# EAGLE library part SULLINS_PPPC062LFBN-RC (library Sullins - PPPC062LFBN-RC)
12 Position Header Connector 0.100" (2.54mm) Through Hole Gold
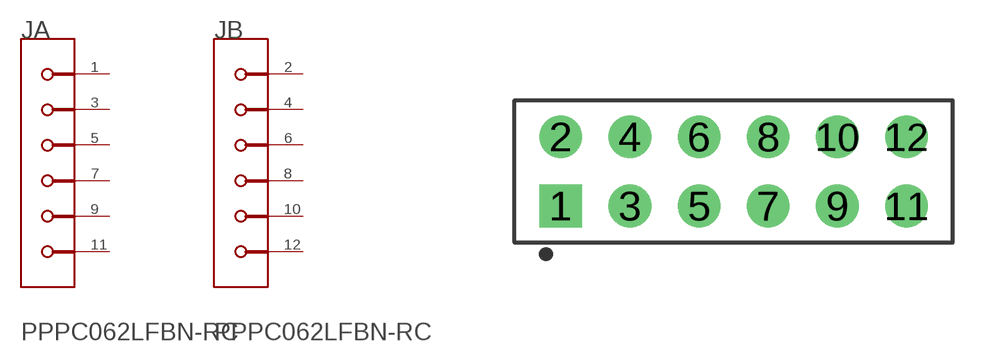
[diagram p0: symbol with the pads of SULLINS_PPPC062LFBN-RC_0; footprint SULLINS_PPPC062LFBN-RC_0]

Designator prefix J; gates A=SULLINS_PPPC062LFBN-RC_0_0 B=SULLINS_PPPC062LFBN-RC_0_1

## SULLINS_PPPC062LFBN-RCSULLINS_PPPC062LFBN-RC_0_0 (AUTOMOTIVE: No; CENTROID_NOT_SPECIFIED: No; CONN_GENDER: Female; CONN_ORIENTATION: Straight; CONTACT_MATERIAL: Gold,Nickel; CURRENT_RATING: 3A; DATASHEET: https://drawings-pdf.s3.amazonaws.com/10492.pdf; DEVICE_CLASS_L1: Connectors; DEVICE_CLASS_L2: Headers and Wire Housings; DEVICE_CLASS_L3: unset; DIGIKEY_DESCRIPTION: CONN HDR 12POS 0.1 GOLD PCB; DIGIKEY_PART_NUMBER: S7109-ND; FOOTPRINT_VARIANT_NAME_0: Recommended_Land_Pattern; HEIGHT: 8.65mm; IS_FEMALE: yes; LEAD_FREE: Yes; MF: Sullins; MFG_PACKAGE_IDENT: 0; MFG_PACKAGE_IDENT_DATE: 0; MFG_PACKAGE_IDENT_REV: 0; MPN: PPPC062LFBN-RC; NUMBER_OF_CONTACTS: 12; NUMBER_OF_ROWS: 2; PACKAGE: CONN_12; PITCH: 2.54mm; PREFIX: J; ROHS: Yes; TEMPERATURE_RANGE_HIGH: +105°C; TEMPERATURE_RANGE_LOW: -40°C; VERIFICATION_VERSION: 0.0.0.3; VOLTAGE_RATING: 250V)  [SULLINS_PPPC062LFBN-RC_0]
1  A:1  pas
2  B:2  pas
3  A:3  pas
4  B:4  pas
5  A:5  pas
6  B:6  pas
7  A:7  pas
8  B:8  pas
9  A:9  pas
10  B:10  pas
11  A:11  pas
12  B:12  pas

## Footprint SULLINS_PPPC062LFBN-RC_0 (pad centres in mm)
12 Position Header Connector 0.100" (2.54mm) Through Hole Gold
drill 1.02 pad 1.57 square: 1 -6.35,-1.27
drill 1.02 pad 1.57: 2 -6.35,1.27; 3 -3.81,-1.27; 4 -3.81,1.27; 5 -1.27,-1.27; 6 -1.27,1.27; 7 1.27,-1.27; 8 1.27,1.27; 9 3.81,-1.27; 10 3.81,1.27; 11 6.35,-1.27; 12 6.35,1.27